# Altium footprint library Pi_Zero_Assembly.PcbLib: 1 footprints
Each footprint in its own frame and in the unit in brackets; x right, y up, seen from the top. Pads: shape width x height; smd on the part's side, far side on the other; paste and mask are expansions set on the pad; w line width, h text height; cw(c..) or ccw(c..) is an arc to the next point about the centre after c.
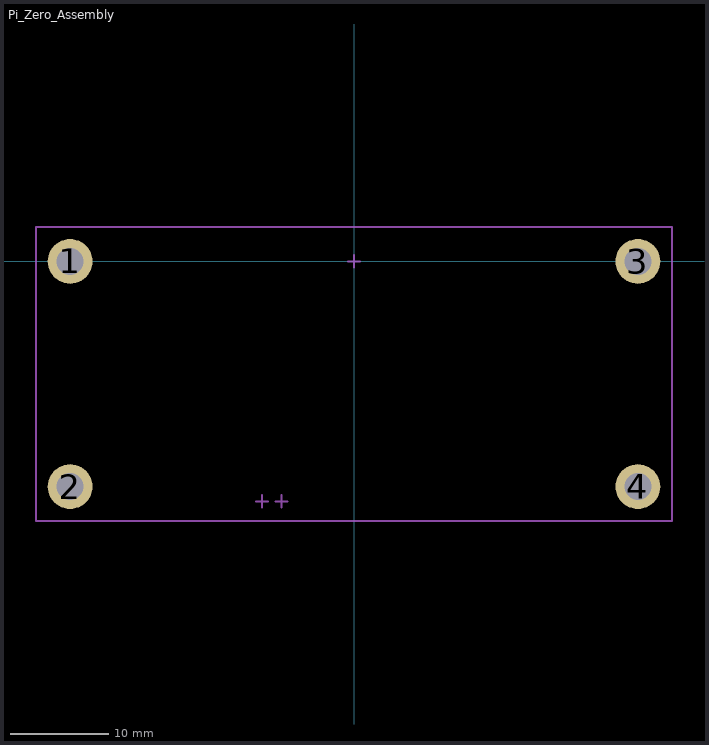
[diagram p0: the footprint, top view; thin cyan lines are the x and y axes]

## Pi_Zero_Assembly [mm]
pads (4):
  round 4.572 hole 2.75: 1(-29,0) 2(-29,-23) 3(29,0) 4(29,-23)
Mechanical 15:
  lines w0.2: -10.035,-24.5 -8.765,-24.5 ; -9.4,-25.135 -9.4,-23.865 ; -8.035,-24.5 -6.765,-24.5 ; -7.4,-25.135 -7.4,-23.865 ; -0.635,0 0.635,0 ; 0,-0.635 0,0.635 ; -32.5,-26.5 32.5,-26.5 32.5,3.5 -32.5,3.5 -32.5,-26.5
3D body: height 10.85, standoff 6.4, extent -32.5,-27.095 32.5,3.505